# EAGLE library part ESP32-S2-WROVER (library ESP32-S2-WROVER)
WiFi 802.11b/g/n Transceiver Module 2.4GHz PCB Trace Surface Mount Check prices <https://pricing.snapeda.com/parts/ESP32-S2-WROVER/Espressif%20Systems/view-part?ref=eda>
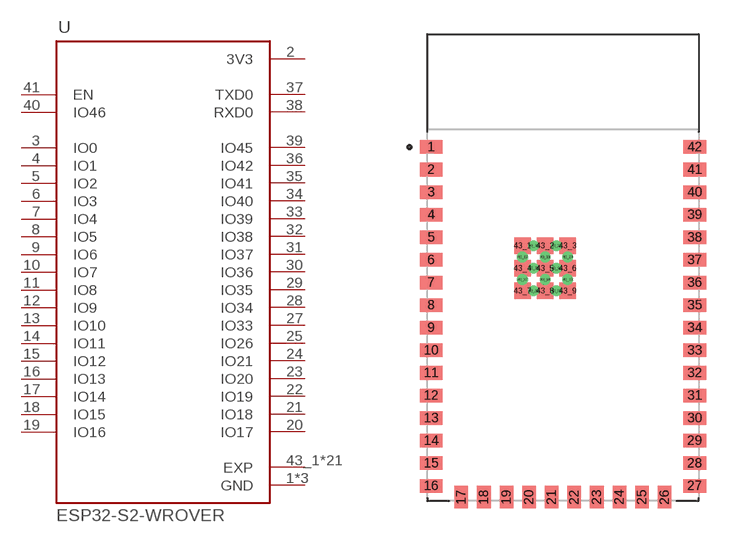
[diagram p0: symbol with the pads of MODULE_ESP32-S2-WROVER; footprint MODULE_ESP32-S2-WROVER]

Designator prefix U

## ESP32-S2-WROVER (Availability: In Stock; Description: WiFi 802.11b/g/n Transceiver Module 2.4GHz PCB Trace Surface Mount; MF: Espressif Systems; MP: ESP32-S2-WROVER; Package: None; Price: None)  [MODULE_ESP32-S2-WROVER]
1  GND  pwr
2  3V3  pwr
3  IO0
4  IO1
5  IO2
6  IO3
7  IO4
8  IO5
9  IO6
10  IO7
11  IO8
12  IO9
13  IO10
14  IO11
15  IO12
16  IO13
17  IO14
18  IO15
19  IO16
20  IO17
21  IO18
22  IO19
23  IO20
24  IO21
25  IO26
26  GND  pwr
27  IO33
28  IO34
29  IO35
30  IO36
31  IO37
32  IO38
33  IO39
34  IO40
35  IO41
36  IO42
37  TXD0
38  RXD0
39  IO45
40  IO46  in
41  EN  in
42  GND  pwr
43_1  EXP  pwr
43_2  EXP  pwr
43_3  EXP  pwr
43_4  EXP  pwr
43_5  EXP  pwr
43_6  EXP  pwr
43_7  EXP  pwr
43_8  EXP  pwr
43_9  EXP  pwr
43_10  EXP  pwr
43_11  EXP  pwr
43_12  EXP  pwr
43_13  EXP  pwr
43_14  EXP  pwr
43_15  EXP  pwr
43_16  EXP  pwr
43_17  EXP  pwr
43_18  EXP  pwr
43_19  EXP  pwr
43_20  EXP  pwr
43_21  EXP  pwr

## Footprint MODULE_ESP32-S2-WROVER (pad centres in mm)
smd 1.5 x 0.9: 1 -8.75,8; 2 -8.75,6.5; 3 -8.75,5; 4 -8.75,3.5; 5 -8.75,2; 6 -8.75,0.5; 7 -8.75,-1; 8 -8.75,-2.5; 9 -8.75,-4; 10 -8.75,-5.5; 11 -8.75,-7; 12 -8.75,-8.5; 13 -8.75,-10; 14 -8.75,-11.5; 15 -8.75,-13; 16 -8.75,-14.5; 27 8.75,-14.5; 28 8.75,-13; 29 8.75,-11.5; 30 8.75,-10; 31 8.75,-8.5; 32 8.75,-7; 33 8.75,-5.5; 34 8.75,-4; 35 8.75,-2.5; 36 8.75,-1; 37 8.75,0.5; 38 8.75,2; 39 8.75,3.5; 40 8.75,5; 41 8.75,6.5; 42 8.75,8
smd 0.9 x 1.5: 17 -6.75,-15.25; 18 -5.25,-15.25; 19 -3.75,-15.25; 20 -2.25,-15.25; 21 -0.75,-15.25; 22 0.75,-15.25; 23 2.25,-15.25; 24 3.75,-15.25; 25 5.25,-15.25; 26 6.75,-15.25
smd 1.1 x 1.1: 43_1 -2.69,1.45; 43_2 -1.19,1.45; 43_3 0.31,1.45; 43_4 -2.69,-0.05; 43_5 -1.19,-0.05; 43_6 0.31,-0.05; 43_7 -2.69,-1.55; 43_8 -1.19,-1.55; 43_9 0.31,-1.55
drill 0.2 pad 0.3: 43_10 -1.94,1.45; 43_11 -0.44,1.45; 43_12 -2.69,0.7; 43_13 -1.19,0.7; 43_14 0.31,0.7; 43_15 -1.94,-0.05; 43_16 -0.44,-0.05; 43_17 -2.69,-0.8; 43_18 -1.19,-0.8; 43_19 0.31,-0.8; 43_20 -1.94,-1.55; 43_21 -0.44,-1.55